# Altium schematic symbol library MFR-25FBF52-4K71_MFR-25FBF52-4K7.SCHLIB: 1 symbol
Pins are listed as number, name and electrical type; pins without a type are passive.

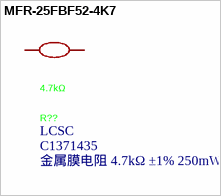
[diagram p0: symbol MFR-25FBF52-4K7]

## MFR-25FBF52-4K7
designator R??, comment 4.7kΩ  LCSC Part Name: 金属膜电阻 4.7kΩ ±1% 250mW  Supplier Part: C1371435  Supplier: LCSC
Manufacturer: YAGEO(国巨); Symbol: MFR-25FBF52-4K7; Add into BOM: yes; Tolerance: ±1%; Power(Watts): 250mW; Temperature Coefficient: ±100ppm/℃; Device: MFR-25FBF52-4K7; Manufacturer Part: MFR-25FBF52-4K7; Value: 4.7kΩ; Supplier Footprint: 插件,D2.4xL6.3mm; JLCPCB Part Class: Extended Part; Datasheet: https://item.szlcsc.com/datasheet/MFR-25FBF52-4K7/1461724.html; Convert to PCB: yes; Type: Metal Film Resistor; Operating Temperature: -55℃~+155℃
footprint RES-TH_BD2.4-L6.3-P10.30-D0.6
3D model RES-TH_BD2.4-L6.3-P10.30-D0.6
pins: 1, 2